# Altium integrated library TRANSISTOR.IntLib: 6 symbols
Pins are listed as number, name and electrical type; pins without a type are passive.

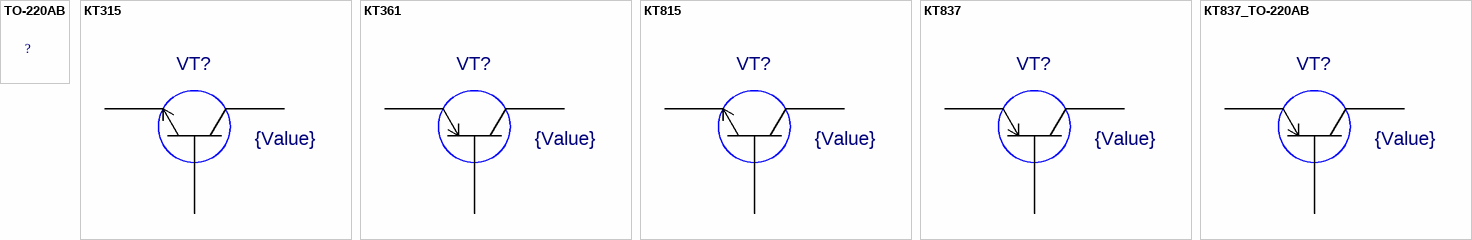
[diagram p0: symbols TO-220AB to КТ837_TO-220AB]

## TO-220AB
designator ?  (value not drawn)
Value: *
footprint TO-220AB
pins: 1 hidden, 2 hidden, 3 hidden, 4 hidden

## КТ315
designator VT?  value {Value}  (hidden comment: КТ315)
footprint КТ315
pins: 1 A1, 2 A2, 3 A3

## КТ361
designator VT?  value {Value}  (hidden comment: КТ361)
footprint КТ315
pins: 1 A1, 2 A2, 3 A3

## КТ815
designator VT?  value {Value}  (hidden comment: КТ815)
footprint КТ815
pins: 1 A1, 2 A2, 3 A3

## КТ837
designator VT?  value {Value}  (hidden comment: КТ837)
footprint КТ837
pins: 1 A1, 2 A2, 3 A3

## КТ837_TO-220AB
designator VT?  value {Value}  (hidden comment: КТ837_TO-220AB)
footprint TO-220AB
pins: 1 A1, 2 A2, 3 A3, 4 hidden